# Altium footprint library gba-zero-parts.PCBLIB: 22 footprints (part 1 of 2)
Each footprint in its own frame and in the unit in brackets; x right, y up, seen from the top. Pads: shape width x height; smd on the part's side, far side on the other; paste and mask are expansions set on the pad; w line width, h text height; cw(c..) or ccw(c..) is an arc to the next point about the centre after c.
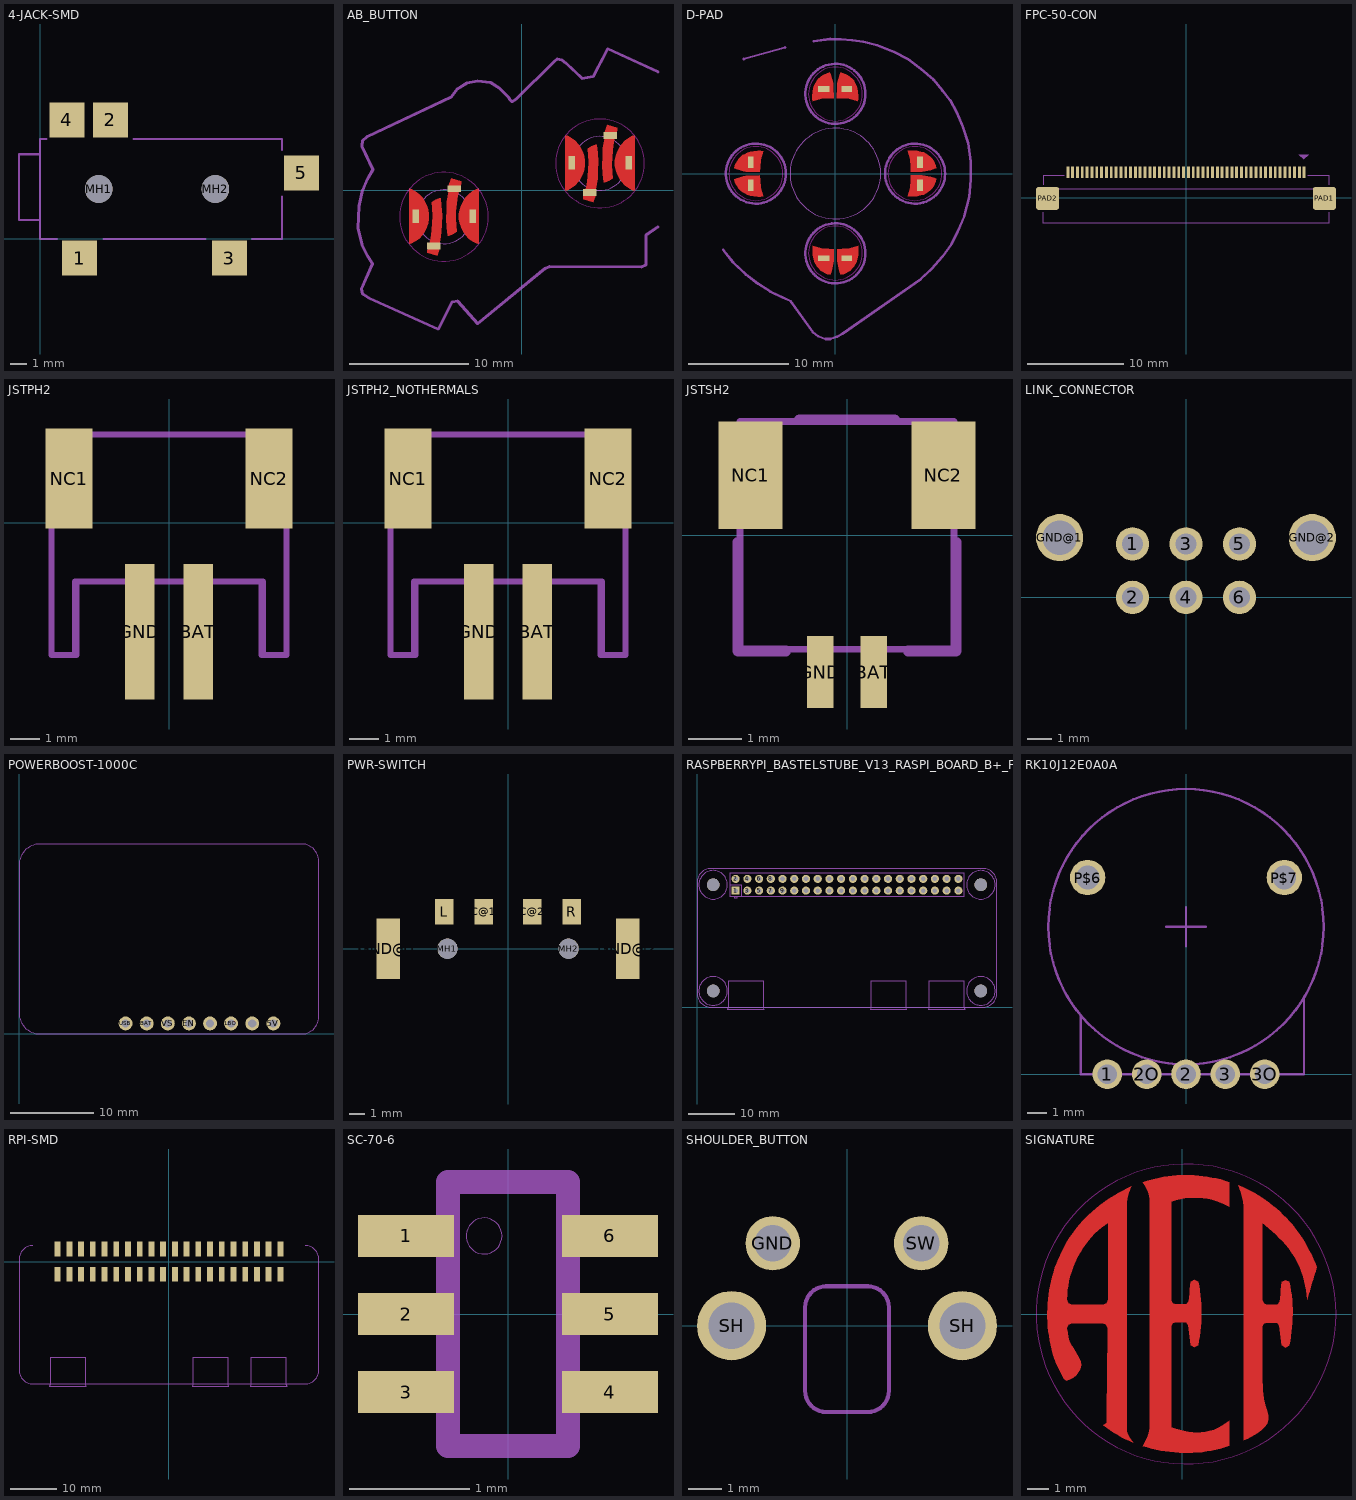
[diagram p0: the footprints below, top view; thin cyan lines are the x and y axes]

## 4-JACK-SMD [mil]
pads (7):
  rect 83x83 smd: 1(93,-45) 2(166,281) 3(447,-45) 4(63,281) 5(617,156)
  round 65 hole 65 unplated: MH1(138,118) MH2(414,118)
tDocu:
  lines w5: 15,236 0,236 0,200 ; 40,0 0,0 0,45 ; 150,0 390,0 ; 220,236 571,236 571,210 ; 500,0 571,0 571,100 ; 0,45 -50,45 -50,200 0,200 ; 0,45 0,200

## AB_BUTTON [mil]
pads (8):
  rect 22.62x45.23 smd: A@1(164.64,90.46) B@1(-350.99,-85.94) GND@2(-162.83,-85.94) GND@4(352.8,90.46)
  rect 45.23x22.62 smd: A@2(292.19,180.92) B@2(-223.44,4.52) GND@1(-291.29,-184.54) GND@3(224.34,-8.14)
Top:
  region: -313,-207.16 -280.43,-216.2 -272.29,-192.68 -275,-186.35 -270.48,-164.64 -265.96,-139.31 -265.05,-112.17 -264.15,-82.32 -265.96,-52.47 -268.67,-27.14 -274.1,-27.14 -285.86,-31.66 -297.62,-39.8 -296.71,-60.61 -294.9,-84.13 -295.81,-107.65 -298.52,-132.98 -302.14,-161.02 -305.76,-177.3 -312.09,-185.45
  region: -200.82,29.85 -233.39,38.9 -241.53,15.38 -238.82,9.05 -243.34,-12.66 -247.86,-37.99 -248.77,-65.13 -249.67,-94.98 -247.86,-124.84 -245.15,-150.17 -239.72,-150.17 -227.96,-145.64 -216.2,-137.5 -217.11,-116.7 -218.92,-93.18 -218.01,-69.66 -215.3,-44.33 -211.68,-16.28 -208.06,0 -201.73,8.14
  region: -372.08,5.28 -372.08,-178.97 -365.02,-176.42 -351.85,-169.21 -339.92,-160.09 -329.53,-149.26 -320.91,-136.97 -314.26,-123.51 -309.74,-109.19 -307.45,-94.35 -307.45,-79.34 -309.74,-64.5 -314.26,-50.18 -320.91,-36.72 -329.53,-24.43 -339.92,-13.6 -351.85,-4.48 -365.02,2.73
  region: -143.55,-178.97 -143.55,5.28 -150.61,2.73 -163.78,-4.48 -175.71,-13.6 -186.1,-24.43 -194.72,-36.72 -201.37,-50.18 -205.89,-64.5 -208.18,-79.34 -208.18,-94.35 -205.89,-109.19 -201.37,-123.51 -194.72,-136.97 -186.1,-149.26 -175.71,-160.09 -163.78,-169.21 -150.61,-176.42
  region: 202.63,-30.76 235.2,-39.8 243.34,-16.28 240.63,-9.95 245.15,11.76 249.67,37.09 250.58,64.23 251.48,94.08 249.67,123.93 246.96,149.26 241.53,149.26 229.77,144.74 218.01,136.6 218.92,115.79 220.73,92.27 219.82,68.75 217.11,43.42 213.49,15.38 209.87,-0.9 203.54,-9.05
  region: 314.81,206.25 282.24,215.3 274.1,191.78 276.81,185.45 272.29,163.73 267.77,138.41 266.86,111.27 265.96,81.42 267.77,51.56 270.48,26.23 275.91,26.23 287.67,30.76 299.43,38.9 298.52,59.7 296.71,83.22 297.62,106.74 300.33,132.07 303.95,160.12 307.57,176.4 313.9,184.54
  region: 143.55,181.68 143.55,-2.57 150.61,-0.02 163.78,7.19 175.71,16.31 186.1,27.14 194.72,39.43 201.37,52.89 205.89,67.21 208.18,82.05 208.18,97.06 205.89,111.9 201.37,126.22 194.72,139.68 186.1,151.97 175.71,162.8 163.78,171.92 150.61,179.13
  region: 372.08,-2.57 372.08,181.68 365.02,179.13 351.85,171.92 339.92,162.8 329.53,151.97 320.91,139.68 314.26,126.22 309.74,111.9 307.45,97.06 307.45,82.05 309.74,67.21 314.26,52.89 320.91,39.43 329.53,27.14 339.92,16.31 351.85,7.19 365.02,-0.02
Top keep-out:
  circle w4: c-257.81,-88.2 r146.74
  circle w4: c257.81,88.2 r146.74
Top Solder:
  drawing of 8 lines, arcs and shapes, not listed
tDocu:
  circle w0: c257.81,88.2 r89.1
  circle w0: c-257.81,-88.2 r89.1
tPlace:
  lines w9.95: 449.59,-121.22 409.79,-148.36 409.79,-247.86 394.41,-254.2 91.37,-252.39 76.89,-258.72 -146.55,-441.45 -212.58,-367.27 -230.68,-369.08 -276.81,-459.54 -504.77,-357.32 -527.39,-342.85 -531.01,-327.47 -493.92,-243.34 -511.11,-216.2 -529.2,-179.11 -541.86,-125.74 -538.24,-53.37 -526.48,0 -511.11,35.28 -492.11,67.85 -529.2,145.64 -527.39,163.73 -512.01,176.4 -234.29,307.57 -214.39,333.8 -181.83,353.7 -146.55,360.04 -104.03,355.51 -75.08,337.42 -44.33,306.66 -39.8,298.52 -32.57,292.19 -19.9,300.33 105.84,424.26 117.6,433.31 130.26,430.6 145.64,419.74 199.01,369.08 235.2,375.41 283.14,466.78 449.59,390.79

## D-PAD [mil]
pads (8):
  rect 40.92x22.62 smd: DOWN(45.23,-332.44) GND@1(45.23,332.44)
  rect 22.62x45.23 smd: GND@2(-332.44,45.23) GND@4(332.44,-45.23) LEFT(-332.44,-45.23) RIGHT(332.44,45.23)
  rect 45.23x22.62 smd: GND@3(-45.23,-332.44) UP(-45.23,332.44)
Top:
  region: 6.33,297.17 7.24,342.4 8.14,353.25 9.95,363.2 12.66,374.96 17.19,388.53 20.81,397.58 31.66,394.86 40.71,391.24 48.85,386.72 56.99,381.29 66.04,372.25 73.27,364.11 76.89,356.87 82.32,346.92 85.94,335.16 88.65,321.59 89.56,304.4 89.56,292.64 88.65,284.5 55.18,293.55 25.33,296.26
  region: -7.24,297.17 -8.14,342.4 -9.05,353.25 -10.86,363.2 -13.57,374.96 -18.09,388.53 -21.71,397.58 -32.57,394.86 -41.61,391.24 -49.75,386.72 -57.9,381.29 -66.94,372.25 -74.18,364.11 -77.8,356.87 -83.22,346.92 -86.84,335.16 -89.56,321.59 -90.46,304.4 -90.46,292.64 -89.56,284.5 -56.09,293.55 -26.23,296.26
  region: -6.33,-297.17 -7.24,-342.4 -8.14,-353.25 -9.95,-363.2 -12.66,-374.96 -17.19,-388.53 -20.81,-397.58 -31.66,-394.86 -40.71,-391.24 -48.85,-386.72 -56.99,-381.29 -66.04,-372.25 -73.27,-364.11 -76.89,-356.87 -82.32,-346.92 -85.94,-335.16 -88.65,-321.59 -89.56,-304.4 -89.56,-292.64 -88.65,-284.5 -55.18,-293.55 -25.33,-296.26
  region: 7.24,-297.17 8.14,-342.4 9.05,-353.25 10.86,-363.2 13.57,-374.96 18.09,-388.53 21.71,-397.58 32.57,-394.86 41.61,-391.24 49.75,-386.72 57.9,-381.29 66.94,-372.25 74.18,-364.11 77.8,-356.87 83.22,-346.92 86.84,-335.16 89.56,-321.59 90.46,-304.4 90.46,-292.64 89.56,-284.5 56.09,-293.55 26.23,-296.26
  region: 297.17,-6.33 342.4,-7.24 353.25,-8.14 363.2,-9.95 374.96,-12.66 388.53,-17.19 397.58,-20.81 394.86,-31.66 391.24,-40.71 386.72,-48.85 381.29,-56.99 372.25,-66.04 364.11,-73.27 356.87,-76.89 346.92,-82.32 335.16,-85.94 321.59,-88.65 304.4,-89.56 292.64,-89.56 284.5,-88.65 293.55,-55.18 296.26,-25.33
  region: 297.17,7.24 342.4,8.14 353.25,9.05 363.2,10.86 374.96,13.57 388.53,18.09 397.58,21.71 394.86,32.57 391.24,41.61 386.72,49.75 381.29,57.9 372.25,66.94 364.11,74.18 356.87,77.8 346.92,83.22 335.16,86.84 321.59,89.56 304.4,90.46 292.64,90.46 284.5,89.56 293.55,56.09 296.26,26.23
  region: -297.17,6.33 -342.4,7.24 -353.25,8.14 -363.2,9.95 -374.96,12.66 -388.53,17.19 -397.58,20.81 -394.86,31.66 -391.24,40.71 -386.72,48.85 -381.29,56.99 -372.25,66.04 -364.11,73.27 -356.87,76.89 -346.92,82.32 -335.16,85.94 -321.59,88.65 -304.4,89.56 -292.64,89.56 -284.5,88.65 -293.55,55.18 -296.26,25.33
  region: -297.17,-7.24 -342.4,-8.14 -353.25,-9.05 -363.2,-10.86 -374.96,-13.57 -388.53,-18.09 -397.58,-21.71 -394.86,-32.57 -391.24,-41.61 -386.72,-49.75 -381.29,-57.9 -372.25,-66.94 -364.11,-74.18 -356.87,-77.8 -346.92,-83.22 -335.16,-86.84 -321.59,-89.56 -304.4,-90.46 -292.64,-90.46 -284.5,-89.56 -293.55,-56.09 -296.26,-26.23
Top keep-out:
  circle w4: c-312.63,0 r106.03
  circle w4: c0,312.63 r106.03
  circle w4: c312.63,0 r106.03
  circle w4: c0,-312.63 r106.03
Top Solder:
  drawing of 8 lines, arcs and shapes, not listed
tDocu:
  circle w0: c0,0 r178.21
tPlace:
  circle w9.95: c0,313.45 r118.05
  circle w9.95: c313.45,0 r118.05
  circle w9.95: c0,-313.45 r118.05
  circle w9.95: c-312.63,0 r118.05
  lines w9.95: -441.45,-299.43 -401.65,-349.18 -351.89,-397.12 -303.95,-433.31 -255.1,-464.07 -205.35,-488.49 -176.4,-501.16 -88.65,-623.28 -66.94,-640.47 -38.9,-650.42 -20.81,-650.42 6.33,-641.37 28.04,-629.61 335.61,-415.22 378.13,-374.51 420.64,-326.57 455.92,-277.72 481.25,-227.96 507.49,-166.45 526.48,-92.27 532.82,-24.42 531.91,47.04 522.87,119.41 500.25,185.45 476.73,240.63 451.4,288.57 420.64,326.57 385.36,369.99 336.52,411.6 286.76,449.59 228.87,478.54 164.64,504.77 110.36,518.34 66.04,524.68 20.81,528.29 -19.9,529.2 -85.94,520.15 ; -360.94,450.5 -198.11,495.73

## FPC-50-CON [mm]
pads (52):
  rect 0.3x1.2 smd: 1(12.25,2.65) 2(11.75,2.65) 3(11.25,2.65) 4(10.75,2.65) 5(10.25,2.65) 6(9.75,2.65) 7(9.25,2.65) 8(8.75,2.65) 9(8.25,2.65) 10(7.75,2.65) 11(7.25,2.65) 12(6.75,2.65) 13(6.25,2.65) 14(5.75,2.65) 15(5.25,2.65) 16(4.75,2.65) 17(4.25,2.65) 18(3.75,2.65) 19(3.25,2.65) 20(2.75,2.65) 21(2.25,2.65) 22(1.75,2.65) 23(1.25,2.65) 24(0.75,2.65) 25(0.25,2.65) 26(-0.25,2.65) 27(-0.75,2.65) 28(-1.25,2.65) 29(-1.75,2.65) 30(-2.25,2.65) 31(-2.75,2.65) 32(-3.25,2.65) 33(-3.75,2.65) 34(-4.25,2.65) 35(-4.75,2.65) 36(-5.25,2.65) 37(-5.75,2.65) 38(-6.25,2.65) 39(-6.75,2.65) 40(-7.25,2.65) 41(-7.75,2.65) 42(-8.25,2.65) 43(-8.75,2.65) 44(-9.25,2.65) 45(-9.75,2.65) 46(-10.25,2.65) 47(-10.75,2.65) 48(-11.25,2.65) 49(-11.75,2.65) 50(-12.25,2.65)
  rrect25% 2.4x2.4 smd: PAD1(14.35,-0.06) PAD2(-14.35,-0.06)
tDocu:
  lines w0: -14.8,0.95 14.8,0.95
  text "50" at -11.2,-3.67 h0.86
  text "1" at 11.6,-3.67 h0.86
tPlace:
  region: 12.2,3.97 11.7,4.47 12.7,4.47
  lines w0.127: -14.8,-1.5 -14.8,-2.65 14.8,-2.65 14.8,-1.5 ; -14.8,1.35 -14.8,2.35 -12.6,2.35 ; 12.6,2.35 14.8,2.35 14.8,1.35

## JSTPH2 [mm]
pads (4):
  rect 1x4.6 smd: BAT(1,-3.7) GND(-1,-3.7)
  rect 1.6x3.4 smd: NC1(-3.4,1.5) NC2(3.4,1.5)
tDocu:
  lines w0.203: -4,-4.5 -4,3 4,3 4,-4.5 3.2,-4.5 3.2,-2 -3.2,-2 -3.2,-4.5 -4,-4.5
tPlace:
  lines w0.203: -4,-0.5 -4,-4.5 -3.15,-4.5 -3.15,-2 -1.75,-2 ; -2.25,3 2.25,3 ; 1.75,-2 3.15,-2 3.15,-4.5 4,-4.5 4,-0.5

## JSTPH2_NOTHERMALS [mm]
pads (4):
  rect 1x4.6 smd: BAT(1,-3.7) GND(-1,-3.7)
  rect 1.6x3.4 smd: NC1(-3.4,1.5) NC2(3.4,1.5)
tDocu:
  lines w0.203: -4,-4.5 -3.2,-4.5 -3.2,-2 3.2,-2 3.2,-4.5 4,-4.5 4,3 -4,3 -4,-4.5
tPlace:
  lines w0.203: -4,-0.5 -4,-4.5 -3.15,-4.5 -3.15,-2 -1.75,-2 ; -2.25,3 2.25,3 ; 1.75,-2 3.15,-2 3.15,-4.5 4,-4.5 4,-0.5

## JSTSH2 [mm]
pads (4):
  rect 0.5x1.35 smd: BAT(0.5,-2.55) GND(-0.5,-2.55)
  rect 1.2x2 smd: NC1(-1.8,1.125) NC2(1.8,1.125)
Dimension:
  lines w0.127: -2,-2.125 -2,2.125 2,2.125 2,-2.125 -2,-2.125
tPlace:
  lines w0.203: -2.032,-0.127 -2.032,-2.159 -1.143,-2.159 ; -0.889,2.159 0.889,2.159 ; 1.143,-2.159 2.032,-2.159 2.032,-0.127
  text "-" at -1.063,-2.404 h2.2
  text "+" at 2.683,-2.404 h2.2

## LINK_CONNECTOR [mil]
pads (8):
  round 53 hole 33: 1(-85,85) 2(-85,0) 3(0,85) 4(0,0) 5(85,85) 6(85,0)
  round 75 hole 55: GND@1(-201,95) GND@2(201,95)

## POWERBOOST-1000C [mil]
pads (8):
  round 66 hole 39.37: 5V(1205,50) BAT(605,50) EN(805,50) GND@1(905,50) GND@2(1105,50) LBO(1005,50) USB(505,50) VS(705,50)
tPlace:
  lines w5: 0,100 0,800 cw(c100,800) 100,900 1350,900 cw(c1335,815) 1420,800 1420,100 cw(c1335,85) 1350,0 100,0 cw(c100,100) 0,100

## PWR-SWITCH [mil]
pads (8):
  rect 45x63 smd: C@1(-60,91.5) C@2(60,91.5) L(-158,91.5) R(158,91.5)
  rect 58x150 smd: GND@1(-296.5,0) GND@2(296.5,0)
  round 50 hole 50 unplated: MH1(-150,0) MH2(150,0)

## RASPBERRYPI_BASTELSTUBE_V13_RASPI_BOARD_B+_FULL [mil]
pads (44):
  rect 70x70 / inner round 64.67 / far side rect 70x70 hole 39.37: 1(329.53,993.31)
  round 70 hole 39.37: 2(329.53,1093.31) 3(429.53,993.31) 4(429.53,1093.31) 5(529.53,993.31) 6(529.53,1093.31) 7(629.53,993.31) 8(629.53,1093.31) 9(729.53,993.31) 10(729.53,1093.31) 11(829.53,993.31) 12(829.53,1093.31) 13(929.53,993.31) 14(929.53,1093.31) 15(1029.53,993.31) 16(1029.53,1093.31) 17(1129.53,993.31) 18(1129.53,1093.31) 19(1229.53,993.31) 20(1229.53,1093.31) 21(1329.53,993.31) 22(1329.53,1093.31) 23(1429.53,993.31) 24(1429.53,1093.31) 25(1529.53,993.31) 26(1529.53,1093.31) 27(1629.53,993.31) 28(1629.53,1093.31) 29(1729.53,993.31) 30(1729.53,1093.31) 31(1829.53,993.31) 32(1829.53,1093.31) 33(1929.53,993.31) 34(1929.53,1093.31) 35(2029.53,993.31) 36(2029.53,1093.31) 37(2129.53,993.31) 38(2129.53,1093.31) 39(2229.53,993.31) 40(2229.53,1093.31)
  round 108.27 hole 108.27 unplated: MH1(137.8,137.8) MH2(137.8,1043.31) MH3(2421.26,137.8) MH4(2421.26,1043.31)
bDocu:
  circle w5: c137.8,137.8 r122.05
  circle w5: c2421.26,137.8 r122.05
  circle w5: c2421.26,1043.31 r122.05
  circle w5: c137.8,1043.31 r122.05
  lines w5: 259.84,-19.69 269.69,0 269.69,226.38 564.96,226.38 564.96,0 574.8,-19.69 259.84,-19.69 ; 1476.38,-19.69 1486.22,0 1486.22,226.38 1781.5,226.38 1781.5,0 1791.34,-19.69 1476.38,-19.69 ; 1972.44,-19.69 1982.28,0 1982.28,226.38 2277.56,226.38 2277.56,0 2287.4,-19.69 1972.44,-19.69
  lines w10: 1452.76,0 1486.22,0 1781.5,0 ; 1948.82,0 1982.28,0 2277.56,0 ; 0,118.11 ccw(c118.11,118.11) 118.11,0 269.69,0 564.96,0 2440.94,0 ccw(c2440.95,118.11) 2559.06,118.11 2559.06,1062.99 ccw(c2440.95,1062.98) 2440.94,1181.1 118.11,1181.1 ccw(c118.11,1062.99) 0,1062.99 0,118.11
tPlace:
  lines w5: 279.53,1043.31 279.53,1143.31 2279.53,1143.31 2279.53,943.31 379.53,943.31 ; 279.53,1043.31 279.53,943.31 317.03,943.31 ; 279.53,1043.31 379.53,1043.31 379.53,943.31 ; 317.03,943.31 342.03,943.31 ; 317.03,943.31 317.03,930.81 342.03,930.81 342.03,943.31 ; 342.03,943.31 379.53,943.31
  text "1" at 317.03,880.81 h34

## RK10J12E0A0A [mm]
pads (7):
  round 1.508 hole 1: 1(-4,0) 2(0,0) 2O(-2,0) 3(2,0) 3O(4,0)
  round 1.8 hole 1.2: P$6(-5,10) P$7(5,10)
tDocu:
  circle w0.127: c0,7.5 r7
  lines w0.127: -5.35,3 -5.35,0 6,0 6,3.9
tPlace:
  lines w0.127: -1,7.5 1,7.5 ; 0,6.5 0,8.5

## RPI-SMD [mil]
pads (40):
  rect 50x125 smd: 1(-950,-107.5) 2(-950,107.5) 3(-850,-107.5) 4(-850,107.5) 5(-750,-107.5) 6(-750,107.5) 7(-650,-107.5) 8(-650,107.5) 9(-550,-107.5) 10(-550,107.5) 11(-450,-107.5) 12(-450,107.5) 13(-350,-107.5) 14(-350,107.5) 15(-250,-107.5) 16(-250,107.5) 17(-150,-107.5) 18(-150,107.5) 19(-50,-107.5) 20(-50,107.5) 21(50,-107.5) 22(50,107.5) 23(150,-107.5) 24(150,107.5) 25(250,-107.5) 26(250,107.5) 27(350,-107.5) 28(350,107.5) 29(450,-107.5) 30(450,107.5) 31(550,-107.5) 32(550,107.5) 33(650,-107.5) 34(650,107.5) 35(750,-107.5) 36(750,107.5) 37(850,-107.5) 38(850,107.5) 39(950,-107.5) 40(950,107.5)
tDocu:
  lines w5: -1019.66,-1063.19 -1009.82,-1043.5 -1009.82,-817.12 -714.54,-817.12 -714.54,-1043.5 -704.7,-1063.19 -1019.66,-1063.19 ; 196.88,-1063.19 206.72,-1043.5 206.72,-817.12 502,-817.12 502,-1043.5 511.84,-1063.19 196.88,-1063.19 ; 692.94,-1063.19 702.78,-1043.5 702.78,-817.12 998.06,-817.12 998.06,-1043.5 1007.9,-1063.19 692.94,-1063.19
  lines w10: -1161.39,137.6 ccw(c-1161.39,19.49) -1279.5,19.49 -1279.5,-925.39 ccw(c-1161.39,-925.39) -1161.39,-1043.5 -1009.82,-1043.5 -714.54,-1043.5 1161.44,-1043.5 ccw(c1161.44,-925.38) 1279.56,-925.39 1279.56,19.49 ccw(c1161.44,19.48) 1161.44,137.6 ; 173.26,-1043.5 206.72,-1043.5 502,-1043.5 ; 669.32,-1043.5 702.78,-1043.5 998.06,-1043.5
tPlace:
  text "1" at -1062.47,-162.69 h34
  text "2" at -1062.47,87.31 h34

## SC-70-6 [mm]
pads (6):
  rect 0.8x0.35 smd: 1(-0.85,0.65) 2(-0.85,0) 3(-0.85,-0.65) 4(0.85,-0.65) 5(0.85,0) 6(0.85,0.65)
tDocu:
  region: 0.6,0.8 1.1,0.8 1.1,0.5 0.6,0.5
  region: 0.6,0.15 1.1,0.15 1.1,-0.15 0.6,-0.15
  region: 0.6,-0.5 1.1,-0.5 1.1,-0.8 0.6,-0.8
  region: -1.1,-0.5 -0.6,-0.5 -0.6,-0.8 -1.1,-0.8
  region: -1.1,0.15 -0.6,0.15 -0.6,-0.15 -1.1,-0.15
  region: -1.1,0.8 -0.6,0.8 -0.6,0.5 -1.1,0.5
  lines w0.203: -0.5,-1.1 -0.5,1.1 ; 0.5,-1.1 0.5,1.1
tPlace:
  circle w0: c-0.2,0.65 r0.15
  lines w0.203: -0.5,-1.1 0.5,-1.1 ; -0.5,1.1 0.5,1.1

## SHOULDER_BUTTON [mil]
pads (4):
  round 64.97 hole 43.31: GND(-88.58,98.43) SW(88.58,98.43)
  round 82.68 hole 55.12: SH(-137.8,0) SH(137.8,0)
Dimension:
  lines w5: -50,-78 ccw(c-25,-78) -25,-103 25,-103 ccw(c25,-78) 50,-78 50,22 ccw(c25,22) 25,47 -25,47 ccw(c-25,22) -50,22 -50,-78

## SIGNATURE [mil]
Top:
  region: 198 vertices and 0 holes, not listed, extent 100.79,-227.48 242.46,231.92
  region: 224 vertices and 0 holes, not listed, extent -70.43,-249.95 84.64,249.95
  region: -162.79,-16.53 -162.79,16.42 -166.48,16.42 -174.38,16.42 -182.28,16.42 -190.18,16.42 -198.08,16.42 -204.54,19.55 -207.21,26.28 -206.98,34.45 -206.31,42.6 -205.21,50.7 -203.71,58.73 -201.81,66.68 -199.53,74.53 -196.88,82.27 -193.88,89.87 -190.53,97.33 -186.84,104.63 -182.84,111.77 -178.53,118.7 -173.88,125.43 -168.93,131.93 -163.66,138.18 -162.79,139.12 -162.79,183.3 -166.94,179.5 -172.84,173.72 -178.54,167.75 -184.04,161.58 -189.33,155.23 -194.39,148.7 -199.23,142 -203.83,135.13 -208.18,128.12 -212.28,120.95 -216.13,113.63 -219.71,106.2 -223.03,98.63 -226.09,90.97 -228.89,83.2 -231.43,75.33 -233.69,67.38 -235.71,59.37 -237.46,51.28 -238.94,43.15 -240.16,34.98 -241.13,26.78 -241.83,18.55 -242.28,10.3 -242.46,2.03 -242.39,-6.23 -242.06,-14.48 -241.48,-22.73 -240.63,-30.95 -239.53,-39.13 -238.16,-47.28 -236.53,-55.38 -234.61,-63.42 -232.41,-71.38 -229.93,-79.27 -227.14,-87.05 -224.04,-94.7 -220.61,-102.22 -216.83,-109.55 -212.66,-116.68 -208.14,-119.82 -202.71,-118.23 -196.21,-115 -190.53,-110.57 -186.53,-105.15 -183.41,-99.18 -181.83,-92.67 -182.31,-85.98 -184.74,-79.72 -188.39,-73.32 -192.33,-67.08 -196.38,-60.92 -200.08,-54.53 -202.93,-47.73 -204.91,-40.63 -206.28,-33.38 -207.26,-26.07 -204.83,-19.3 -198.11,-16.55 -190.21,-16.55 -182.31,-16.55 -174.41,-16.55 -166.51,-16.55 -162.83,-16.55
  region: -162.79,-16.53 -158.58,-16.53 -150.68,-16.53 -142.78,-16.53 -136.13,-19.27 -133.64,-26.05 -133.78,-34.12 -133.91,-42.2 -134.03,-50.27 -134.14,-58.33 -134.26,-66.4 -134.38,-74.48 -134.49,-82.55 -134.61,-90.62 -134.71,-98.68 -134.81,-106.77 -134.91,-114.83 -135.01,-122.92 -135.09,-130.98 -135.18,-139.07 -135.26,-147.13 -135.34,-155.22 -135.41,-163.3 -135.48,-171.37 -135.53,-179.45 -135.56,-187.52 -135.58,-195.58 -141.99,-200.27 -135.73,-204.97 -129.31,-209.45 -122.74,-213.72 -116.04,-217.75 -109.19,-221.55 -102.21,-225.1 -95.11,-228.38 -87.89,-231.4 -92.89,-225.05 -97.24,-218.25 -99.79,-210.67 -99.79,-202.45 -99.79,-194.23 -99.79,-186.02 -99.79,-177.8 -99.79,-169.58 -99.79,-161.37 -99.79,-153.15 -99.79,-144.93 -99.79,-136.72 -99.79,-128.5 -99.79,-120.28 -99.79,-112.07 -99.79,-103.85 -99.79,-95.63 -99.79,-87.42 -99.79,-79.2 -99.79,-70.98 -99.79,-62.77 -99.79,-54.55 -99.79,-46.33 -99.79,-38.12 -99.79,-29.9 -99.79,-21.68 -99.79,-13.47 -99.79,-5.25 -99.79,2.97 -99.79,11.18 -99.79,19.4 -99.79,27.62 -99.79,35.83 -99.79,44.05 -99.79,52.27 -99.79,60.48 -99.79,68.7 -99.79,76.92 -99.79,85.13 -99.79,93.35 -99.79,101.57 -99.79,109.78 -99.79,118 -99.79,126.22 -99.79,134.43 -99.79,142.65 -99.79,150.87 -99.79,159.08 -99.79,167.3 -99.79,175.52 -99.79,183.73 -99.79,191.95 -99.79,200.17 -98.81,207.75 -96.84,215.15 -94.41,222.42 -91.64,229.55 -99.09,225.98 -106.46,222.23 -113.71,218.28 -120.86,214.13 -127.88,209.78 -134.78,205.23 -141.53,200.47 -148.13,195.5 -154.58,190.33 -160.86,184.97 -162.81,183.18 -162.81,139 -158.09,144.05 -152.19,149.72 -145.99,155.03 -139.48,159.97 -132.64,164.45 -132.64,156.32 -132.64,148.18 -132.64,140.05 -132.64,131.92 -132.64,123.78 -132.64,115.65 -132.64,107.52 -132.64,99.38 -132.64,91.25 -132.64,83.12 -132.64,74.98 -132.64,66.85 -132.64,58.72 -132.64,50.58 -132.64,42.45 -132.64,34.32 -132.64,26.18 -135.78,19.27 -142.79,16.32 -150.69,16.32 -158.59,16.32 -162.81,16.32 -162.81,-16.63
Top keep-out:
  circle w0: c7,0 r270